# Altium footprint library SHDRRA3W80P0X381_1X3_1262X920X700P.PcbLib: 1 footprints
Each footprint in its own frame and in the unit in brackets; x right, y up, seen from the top. Pads: shape width x height; smd on the part's side, far side on the other; paste and mask are expansions set on the pad; w line width, h text height; cw(c..) or ccw(c..) is an arc to the next point about the centre after c.
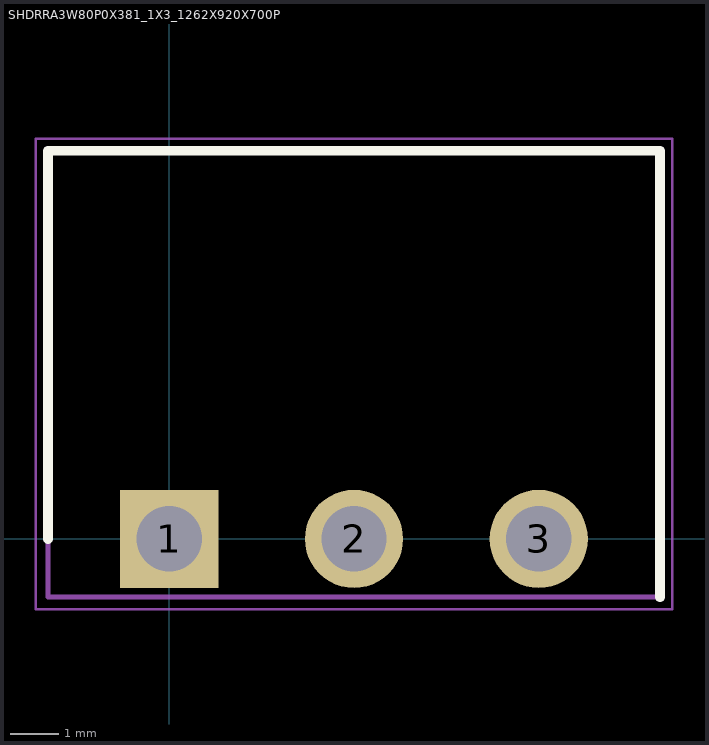
[diagram p0: the footprint, top view; thin cyan lines are the x and y axes]

## SHDRRA3W80P0X381_1X3_1262X920X700P [mm]
pads (3):
  rect 2.025x2.025 / inner round 2.025 / far side rect 2.025x2.025 hole 1.35: 1(0,0)
  round 2.025 hole 1.35: 2(3.81,0) 3(7.62,0)
Top Overlay:
  lines w0.2: -2.5,0 -2.5,8 10.12,8 10.12,-1.2
Mechanical 15:
  lines w0.1: -2.5,-1.2 -2.5,8 10.12,8 10.12,-1.2 -2.5,-1.2
Mechanical 20:
  lines w0.05: -2.75,-1.45 10.37,-1.45 10.37,8.25 -2.75,8.25 -2.75,-1.45